# Altium schematic symbol library AP64501SP-13.SchLib: 1 symbol
Pins are listed as number, name and electrical type; pins without a type are passive.

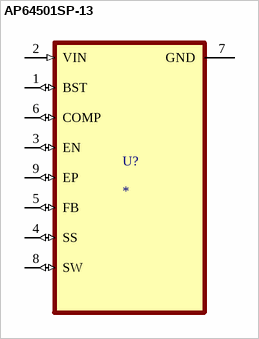
[diagram p0: symbol AP64501SP-13]

## AP64501SP-13
designator U?
MF: {'manufacturer': u'Diodes Incorporated'}; MP: AP64501SP-13; Package: None; Price: None; Value: *; Availability: Unavailable
footprint SOIC127P600X170-9N
pins: 1 BST (io), 2 VIN (in), 3 EN (io), 4 SS (io), 5 FB (io), 6 COMP (io), 7 GND (power), 8 SW (io), 9 EP (io)